# EAGLE library part 418127270903 (library Eagle_Wuerth_Elektronik_Switch)
WS-IC 2.54 mm small compact THT Dip Switch with raised actuator, 3 Pole
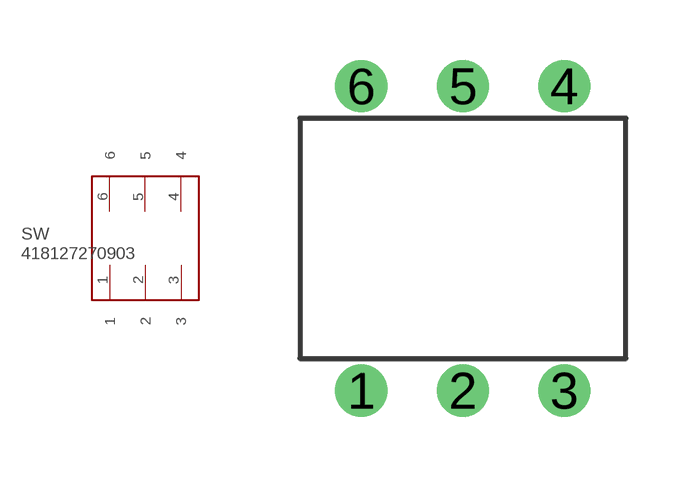
[diagram p108: symbol with the pads of 418127270903; footprint 418127270903]

Designator prefix SW

## 418127270903  [418127270903]
1  1
2  2
3  3
4  4
5  5
6  6

## Footprint 418127270903 (pad centres in mm)
WS-IC 2.54 mm small compact THT Dip Switch with raised actuator, 3 Pole
drill 0.8: 1 0,-3.81; 2 2.54,-3.81; 3 5.08,-3.81; 4 5.08,3.81; 5 2.54,3.81; 6 0,3.81